# Altium footprint library 接口.PCBLIB: 266 footprints (part 16 of 17)
Each footprint in its own frame and in the unit in brackets; x right, y up, seen from the top. Pads: shape width x height; smd on the part's side, far side on the other; paste and mask are expansions set on the pad; w line width, h text height; cw(c..) or ccw(c..) is an arc to the next point about the centre after c.
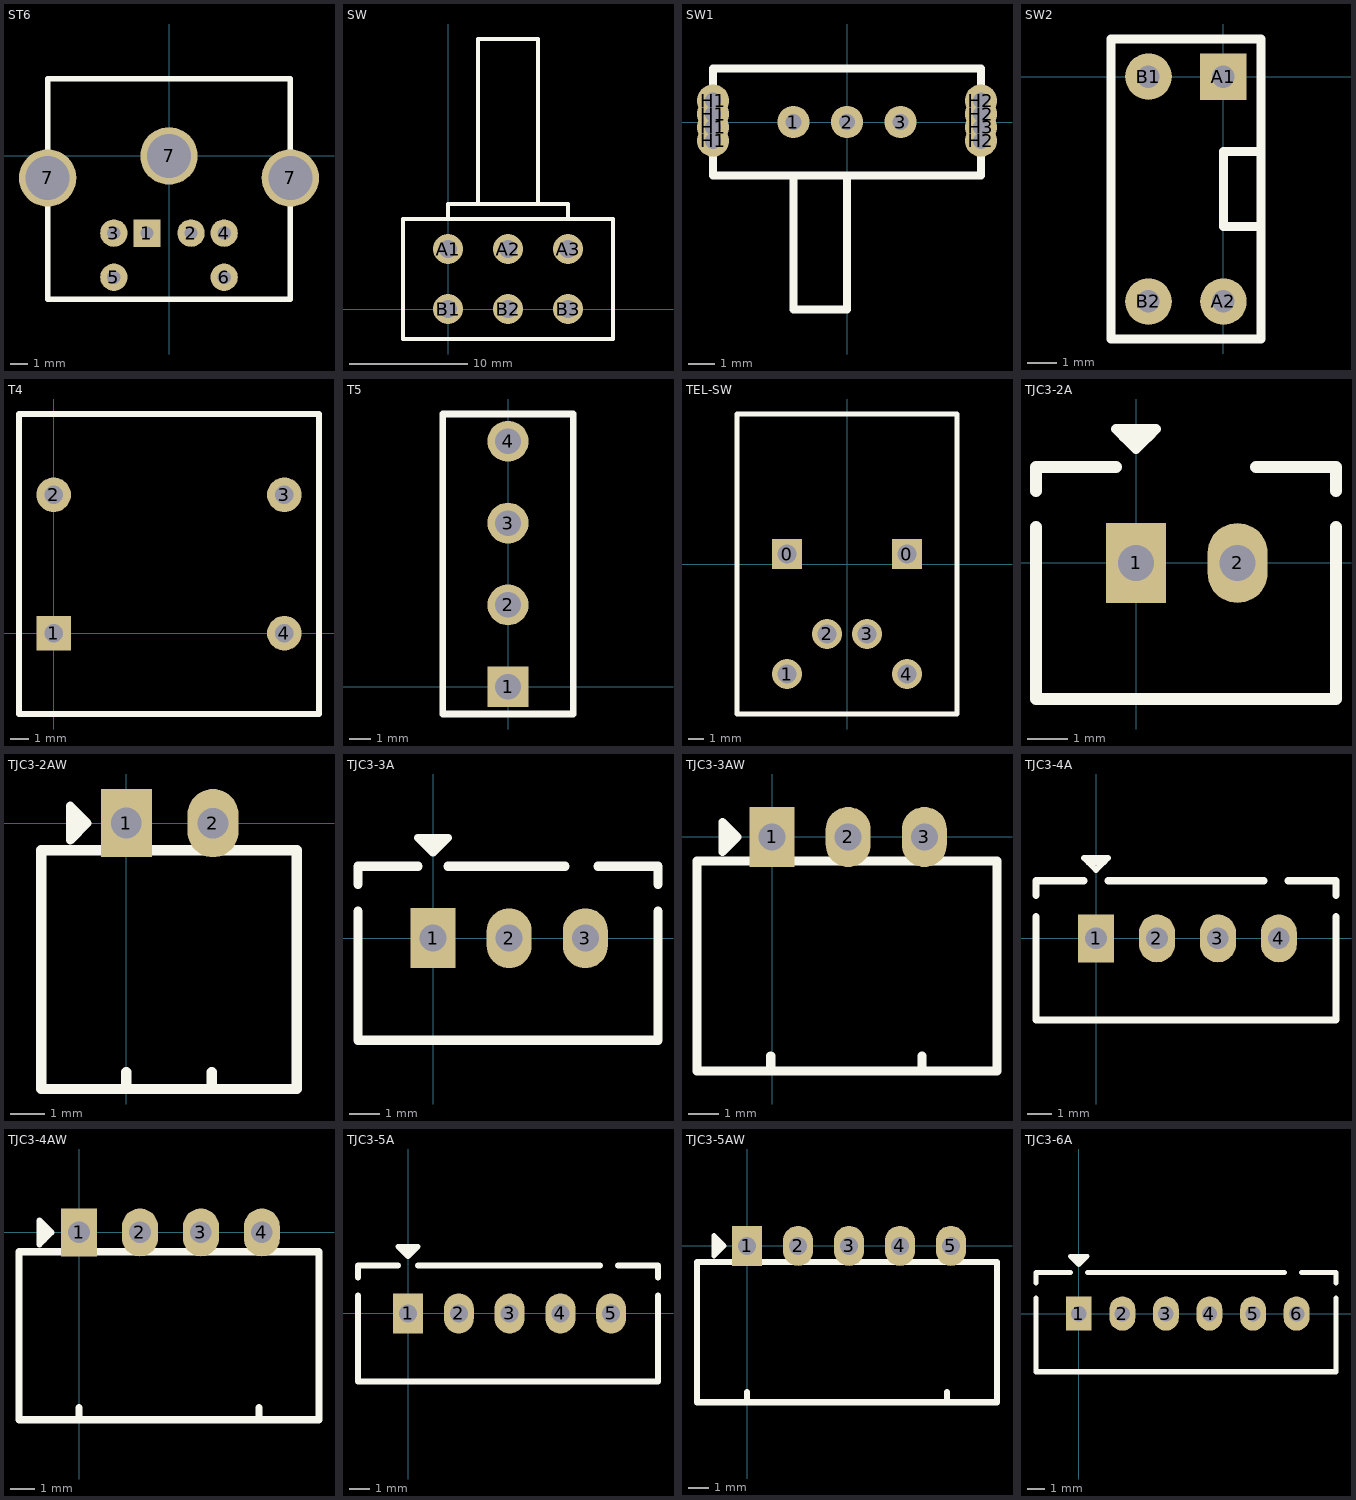
[diagram p15: the footprints below, top view; thin cyan lines are the x and y axes]

## ST6 [mil]
pads (9):
  rect 62x62 hole 30: 1(-50,-175)
  round 62 hole 30: 2(50,-175) 3(-125,-175) 4(125,-175) 5(-125,-275) 6(125,-275)
  round 130 hole 100: 7(-275,-50) 7(0,0) 7(275,-50)
TopOverlay:
  lines w12: -275,-325 -275,175 275,175 275,-325 -275,-325

## SW [mil]
pads (6):
  round 100 hole 60: A1(0,200) A2(200,200) A3(400,200) B1(0,0) B2(200,0) B3(400,0)
TopOverlay:
  lines w12: 0,300 0,350 400,350 400,300 ; 100,350 100,900 300,900 300,350 ; -150,-100 550,-100 550,300 -150,300 -150,-100

## SW1 [mm]
pads (11):
  round 1.2 hole 0.6: 1(-2,0) 2(0,0) 3(2,0) H1(-5,-0.7) H1(-5,-0.2) H1(-5,0.3) H1(-5,0.8) H2(5,-0.7) H2(5,0.3) H2(5,0.8) H3(5,-0.2)
TopOverlay:
  lines w0.305: -2,-2.2 -2,-7 0,-7 0,-2 ; -5,-2 -5,2 5,2 5,-2 -5,-2

## SW2 [mil]
pads (4):
  rect 62x62 hole 30: A1(0,0)
  round 62 hole 30: A2(0,-300) B1(-100,0) B2(-100,-300)
TopOverlay:
  lines w12: 50,-200 0,-200 0,-100 50,-100 ; -150,-350 50,-350 50,50 -150,50 -150,-350

## T4 [mil]
pads (4):
  rect 75x75 hole 40: 1(0,0)
  round 75 hole 40: 2(0,300) 3(500,300) 4(500,0)
TopOverlay:
  lines w12: -75,-175 575,-175 575,475 -75,475 -75,-175

## T5 [mil]
pads (4):
  rect 75x75 hole 47: 1(0,0)
  round 75 hole 47: 2(0,150) 3(0,300) 4(0,450)
TopOverlay:
  lines w12: -120,-50 120,-50 120,500 -120,500 -120,-50

## TEL-SW [mil]
pads (6):
  rect 75x75 hole 48: 0(-150,25) 0(150,25)
  round 75 hole 48: 1(-150,-275) 2(-50,-175) 3(50,-175) 4(150,-275)
TopOverlay:
  lines w12: -275,-375 -275,375 275,375 275,-375 -275,-375

## TJC3-2A [mm]
pads (2):
  rect 1.5x2 hole 0.9: 1(0,0)
  oval 1.5x2 hole 0.9: 2(2.54,0)
TopOverlay:
  lines w0.254: -0.306,3.156 0.306,3.156 0.5,3.35 ; 0.5,3.35 0,2.85 -0.5,3.35 0.5,3.35
  lines w0.305: -2.5,0.9 -2.5,-3.4 5,-3.4 5,0.9 ; -2.5,1.8 -2.5,2.4 -0.5,2.4 ; 3,2.4 5,2.4 5,1.8

## TJC3-2AW [mm]
pads (2):
  rect 1.5x2 hole 0.9: 1(0,0)
  oval 1.5x2 hole 0.9: 2(2.54,0)
TopOverlay:
  lines w0.254: -1.456,-0.306 -1.456,0.306 -1.65,0.5 ; -1.65,0.5 -1.15,0 -1.65,-0.5 -1.65,0.5
  lines w0.305: 0,-7.8 0,-7.3 ; 2.5,-7.8 2.5,-7.3 ; -2.5,-7.8 -2.5,-0.8 5,-0.8 5,-7.8 -2.5,-7.8

## TJC3-3A [mm]
pads (3):
  rect 1.5x2 hole 0.9: 1(0,0)
  oval 1.5x2 hole 0.9: 2(2.54,0) 3(5.08,0)
TopOverlay:
  lines w0.254: -0.306,3.156 0.306,3.156 0.5,3.35 ; 0.5,3.35 0,2.85 -0.5,3.35 0.5,3.35
  lines w0.305: -2.5,0.9 -2.5,-3.4 7.5,-3.4 7.5,0.9 ; -2.5,1.8 -2.5,2.4 -0.5,2.4 ; 0.5,2.4 4.4,2.4 ; 5.5,2.4 7.5,2.4 7.5,1.8

## TJC3-3AW [mm]
pads (3):
  rect 1.5x2 hole 0.9: 1(0,0)
  oval 1.5x2 hole 0.9: 2(2.54,0) 3(5.08,0)
TopOverlay:
  lines w0.254: -1.456,-0.306 -1.456,0.306 -1.65,0.5 ; -1.65,0.5 -1.15,0 -1.65,-0.5 -1.65,0.5
  lines w0.305: -0.04,-7.8 -0.04,-7.3 ; 5,-7.8 5,-7.3 ; -2.5,-7.8 7.5,-7.8 7.5,-0.8 -2.5,-0.8 -2.5,-7.8

## TJC3-4A [mm]
pads (4):
  rect 1.5x2 hole 0.9: 1(0,0)
  oval 1.5x2 hole 0.9: 2(2.54,0) 3(5.08,0) 4(7.62,0)
TopOverlay:
  lines w0.254: -0.306,3.156 0.306,3.156 0.5,3.35 ; 0.5,3.35 0,2.85 -0.5,3.35 0.5,3.35
  lines w0.305: -2.5,0.9 -2.5,-3.4 10,-3.4 10,0.9 ; -2.5,1.8 -2.5,2.4 -0.5,2.4 ; 0.5,2.4 7,2.4 ; 8,2.4 10,2.4 10,1.8

## TJC3-4AW [mm]
pads (4):
  rect 1.5x2 hole 0.9: 1(0,0)
  oval 1.5x2 hole 0.9: 2(2.54,0) 3(5.08,0) 4(7.62,0)
TopOverlay:
  lines w0.254: -1.456,-0.306 -1.456,0.306 -1.65,0.5 ; -1.65,0.5 -1.65,-0.5 -1.15,0 -1.65,0.5
  lines w0.305: 0,-7.8 0,-7.3 ; 7.5,-7.8 7.5,-7.3 ; -2.5,-7.8 10,-7.8 10,-0.8 -2.5,-0.8 -2.5,-7.8

## TJC3-5A [mm]
pads (5):
  rect 1.5x2 hole 0.9: 1(0,0)
  oval 1.5x2 hole 0.9: 2(2.54,0) 3(5.08,0) 4(7.62,0) 5(10.16,0)
TopOverlay:
  lines w0.254: -0.306,3.156 0.306,3.156 0.5,3.35 ; 0.5,3.35 0,2.85 -0.5,3.35 0.5,3.35
  lines w0.305: -2.5,0.9 -2.5,-3.4 12.5,-3.4 12.5,0.9 ; -2.5,1.8 -2.5,2.4 -0.5,2.4 ; 0.5,2.4 9.6,2.4 ; 10.5,2.4 12.5,2.4 12.5,1.8

## TJC3-5AW [mm]
pads (5):
  rect 1.5x2 hole 0.9: 1(0,0)
  oval 1.5x2 hole 0.9: 2(2.54,0) 3(5.08,0) 4(7.62,0) 5(10.16,0)
TopOverlay:
  lines w0.254: -1.456,-0.306 -1.456,0.306 -1.65,0.5 ; -1.65,0.5 -1.15,0 -1.65,-0.5 -1.65,0.5
  lines w0.305: 0,-7.8 0,-7.3 ; 9.96,-7.8 9.96,-7.3 ; -2.5,-7.8 12.46,-7.8 12.46,-0.8 -2.5,-0.8 -2.5,-7.8

## TJC3-6A [mm]
pads (6):
  rect 1.5x2 hole 0.9: 1(0,0)
  oval 1.5x2 hole 0.9: 2(2.54,0) 3(5.08,0) 4(7.62,0) 5(10.16,0) 6(12.7,0)
TopOverlay:
  lines w0.254: -0.306,3.156 0.306,3.156 0.5,3.35 ; 0.5,3.35 0,2.85 -0.5,3.35 0.5,3.35
  lines w0.305: -2.5,0.9 -2.5,-3.4 15,-3.4 15,0.9 ; -2.5,1.8 -2.5,2.4 -0.5,2.4 ; 0.5,2.4 12,2.4 ; 13,2.4 15,2.4 15,1.8